# Altium footprint library Res_Vishay_CRCW251210K0FKEG_10kOhm_MFG.PcbLib: 1 footprints
Each footprint in its own frame and in the unit in brackets; x right, y up, seen from the top. Pads: shape width x height; smd on the part's side, far side on the other; paste and mask are expansions set on the pad; w line width, h text height; cw(c..) or ccw(c..) is an arc to the next point about the centre after c.
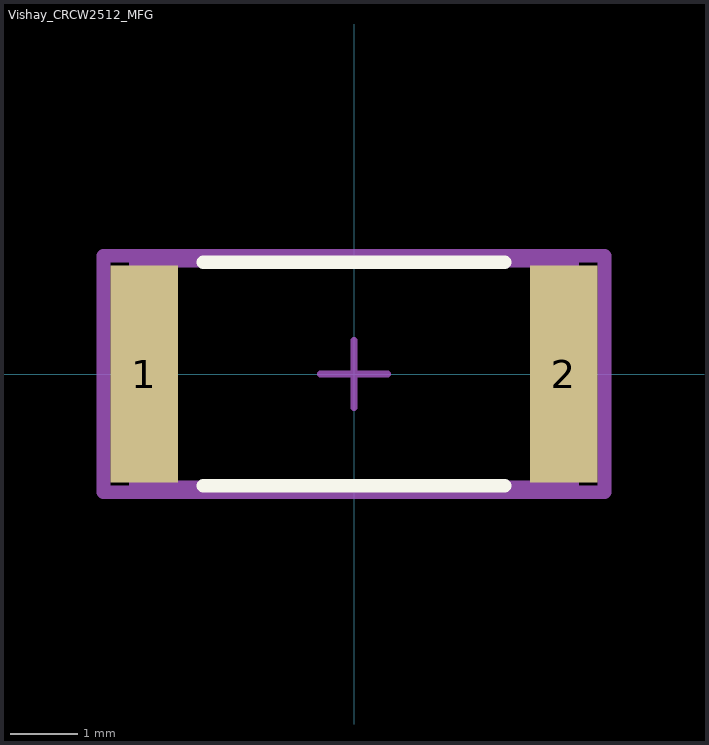
[diagram p0: the footprint, top view; thin cyan lines are the x and y axes]

## Vishay_CRCW2512_MFG [mm]
pads (2):
  rect 1x3.2 smd paste+0 mask+0: 1(-3.1,0) 2(3.1,0)
Top Overlay:
  lines w0.2: -2.225,-1.65 2.225,-1.65 ; -2.225,1.65 2.225,1.65
Mechanical 10:
  lines w0.2: -3.7,-1.75 -3.7,1.75 3.7,1.75 3.7,-1.75 -3.7,-1.75
  text ".Designator" at 0,0 h1
Mechanical 12:
  lines w0.15: -3.25,-1.65 -3.25,1.65 3.25,1.65 3.25,-1.65 -3.25,-1.65
Mechanical 15:
  lines w0.1: -0.5,0 0.5,0 ; 0,-0.5 0,0.5
  lines w0.2: -3.7,-1.75 -3.7,1.75 3.7,1.75 3.7,-1.75 -3.7,-1.75
3D body "Res_Vishay_CRCW251210K0FKEG_eec.STEP": height 0.25, standoff 0, extent -3.7,-1.75 3.7,1.75